# EAGLE library part SPH0645LM4H (library all-transducers)
SPH0645LM4H Knowles I2S Output Digital Microphone
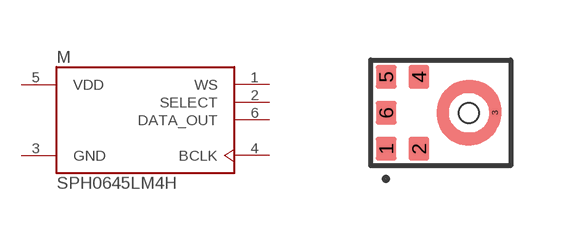
[diagram p2: symbol with the pads of SPH0645LM4H; footprint SPH0645LM4H]

Designator prefix M

## SPH0645LM4H-B  [SPH0645LM4H]
1  WS  in
2  SELECT  in
3  GND  pwr
4  BCLK  in
5  VDD  pwr
6  DATA_OUT  out

## Footprint SPH0645LM4H (pad centres in mm)
smd 0.522 x 0.6: 1 -1.364,-0.9; 2 -0.542,-0.9; 4 -0.542,0.9; 5 -1.364,0.9; 6 -1.364,0
smd 0.1 x 0.1: 3 1.36,0
hole 0.5 at 0.71,0